# Altium footprint library CAPC160X80X100L40N.PcbLib: 1 footprints
Each footprint in its own frame and in the unit in brackets; x right, y up, seen from the top. Pads: shape width x height; smd on the part's side, far side on the other; paste and mask are expansions set on the pad; w line width, h text height; cw(c..) or ccw(c..) is an arc to the next point about the centre after c.
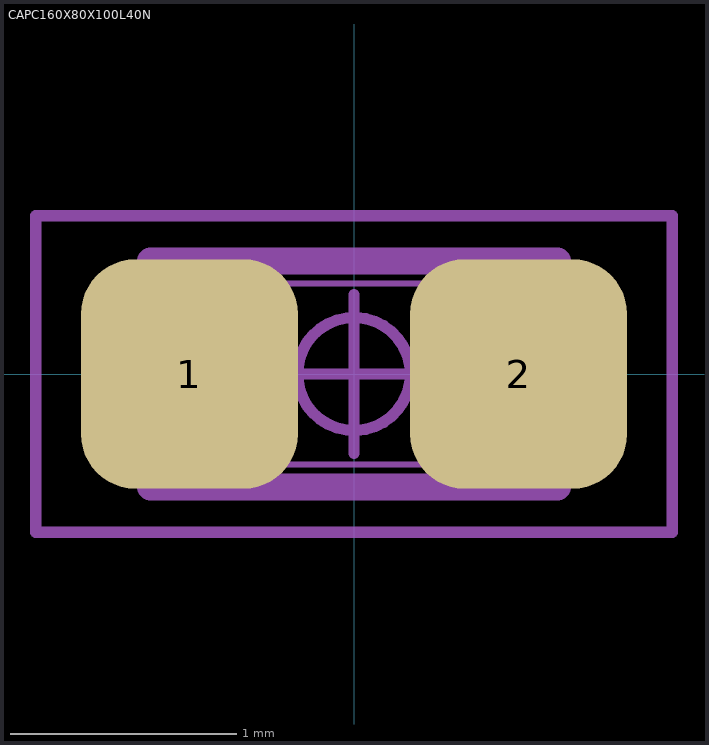
[diagram p0: the footprint, top view; thin cyan lines are the x and y axes]

## CAPC160X80X100L40N [mm] "Capacitor, Non-polarized, Chip; 1.60 mm L X 0.80 mm W X 1.00 mm H Body"
height 1
pads (2):
  rrect50% 0.959x1.015 smd: 1(-0.728,0) 2(0.728,0)
Mechanical 3:
  lines w0.12: -0.9,-0.5 0.9,-0.5 0.9,0.5 -0.9,0.5 -0.9,-0.5
Mechanical 5:
  lines w0.025: -0.8,-0.4 0.8,-0.4 ; -0.8,-0.4 -0.8,0.4 ; -0.8,-0.4 -0.8,0.4 ; -0.8,-0.4 -0.4,-0.4 -0.4,0.4 -0.8,0.4 ; -0.8,0.4 0.8,0.4 ; 0.8,-0.4 0.8,0.4 ; 0.8,-0.4 0.4,-0.4 0.4,0.4 0.8,0.4 ; 0.8,-0.4 0.8,0.4
Mechanical 7:
  circle w0.05: c0,0 r0.25
  lines w0.05: -0.35,0 0.35,0 ; 0,-0.35 0,0.35 ; -1.408,-0.7 1.408,-0.7 1.408,0.7 -1.408,0.7 -1.408,-0.7
Mechanical 9:
  text "'.Designator'" at -5.944,-0.271 h1.02
3D body "CAPC160X80X100L40.STEP": height 1, standoff 0, extent -0.8,-0.4 0.8,0.4
3D body: height 23.4, standoff 0, extent -1.408,-0.7 1.408,0.7